# Altium schematic symbol library Arduino Nano.Schlib: 1 symbol
Pins are listed as number, name and electrical type; pins without a type are passive.

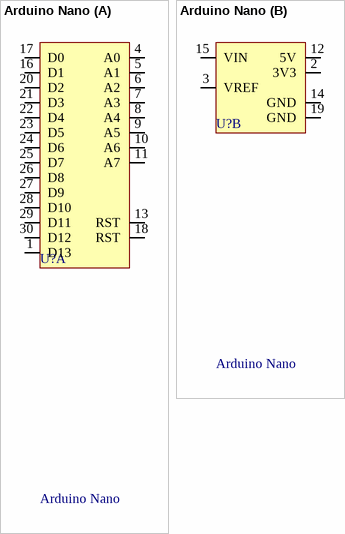
[diagram p0: symbol Arduino Nano]

## Arduino Nano
designator U?
part A pins: 1 D13, 4 A0, 5 A1, 6 A2, 7 A3, 8 A4, 9 A5, 10 A6, 11 A7, 13 RST, 16 D1, 17 D0, 18 RST, 20 D2, 21 D3, 22 D4, 23 D5, 24 D6, 25 D7, 26 D8, 27 D9, 28 D10, 29 D11, 30 D12
part B pins: 2 3V3, 3 VREF, 12 5V, 14 GND, 15 VIN, 19 GND